# EAGLE library part DF11-32-2DSA_S (library con-hirose-df11)
HEADER
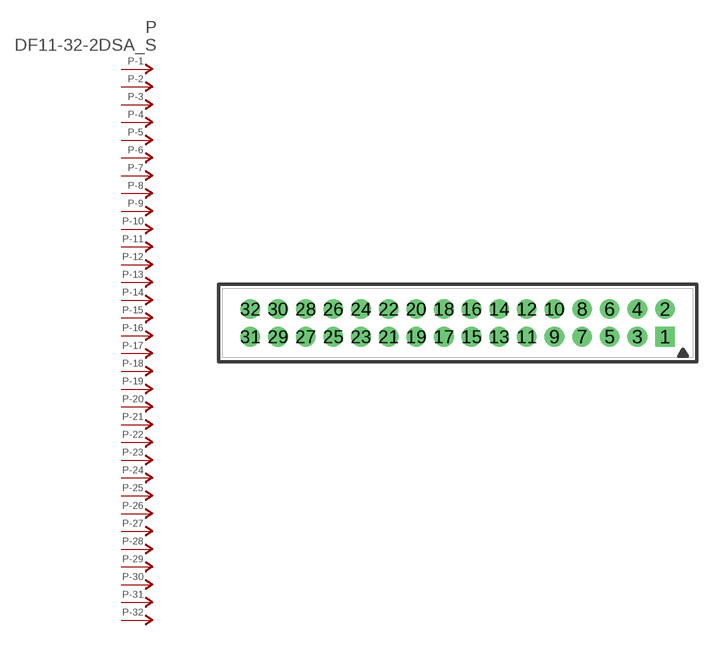
[diagram p27: symbol with the pads of DF11-32DP-2DSA; footprint DF11-32DP-2DSA]

Designator prefix P; gates -1=P-NV -2=P-N -3=P-N -4=P-N -5=P-N -6=P-N -7=P-N -8=P-N -9=P-N -10=P-N -11=P-N -12=P-N -13=P-N -14=P-N -15=P-N -16=P-N -17=P-N -18=P-N -19=P-N -20=P-N -21=P-N -22=P-N -23=P-N -24=P-N -25=P-N -26=P-N -27=P-N -28=P-N -29=P-N -30=P-N -31=P-N -32=P-N

## DF11-32-2DSA_S  [DF11-32DP-2DSA]
1  -1:P  pas
2  -2:P  pas
3  -3:P  pas
4  -4:P  pas
5  -5:P  pas
6  -6:P  pas
7  -7:P  pas
8  -8:P  pas
9  -9:P  pas
10  -10:P  pas
11  -11:P  pas
12  -12:P  pas
13  -13:P  pas
14  -14:P  pas
15  -15:P  pas
16  -16:P  pas
17  -17:P  pas
18  -18:P  pas
19  -19:P  pas
20  -20:P  pas
21  -21:P  pas
22  -22:P  pas
23  -23:P  pas
24  -24:P  pas
25  -25:P  pas
26  -26:P  pas
27  -27:P  pas
28  -28:P  pas
29  -29:P  pas
30  -30:P  pas
31  -31:P  pas
32  -32:P  pas

## Footprint DF11-32DP-2DSA (pad centres in mm)
HEADER
drill 0.914 square: 1 15,-1
drill 0.914: 2 15,1; 3 13,-1; 4 13,1; 5 11,-1; 6 11,1; 7 9,-1; 8 9,1; 9 7,-1; 10 7,1; 11 5,-1; 12 5,1; 13 3,-1; 14 3,1; 15 1,-1; 16 1,1; 17 -1,-1; 18 -1,1; 19 -3,-1; 20 -3,1; 21 -5,-1; 22 -5,1; 23 -7,-1; 24 -7,1; 25 -9,-1; 26 -9,1; 27 -11,-1; 28 -11,1; 29 -13,-1; 30 -13,1; 31 -15,-1; 32 -15,1